# Altium footprint library DB_DFS.PcbLib: 1 footprints
Each footprint in its own frame and in the unit in brackets; x right, y up, seen from the top. Pads: shape width x height; smd on the part's side, far side on the other; paste and mask are expansions set on the pad; w line width, h text height; cw(c..) or ccw(c..) is an arc to the next point about the centre after c.
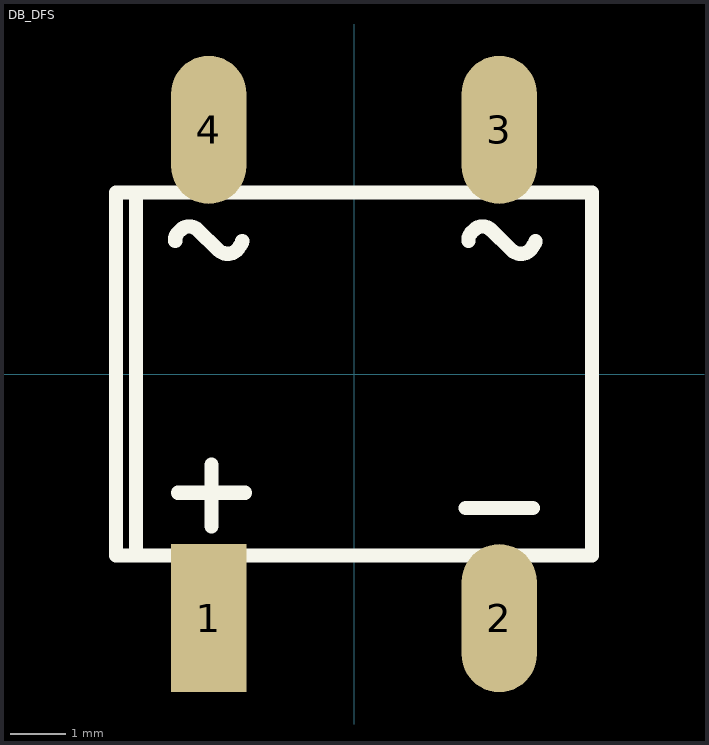
[diagram p0: the footprint, top view; thin cyan lines are the x and y axes]

## DB_DFS [mm] "DIOB_DFL15XXS"
pads (4):
  rect 1.35x2.65 smd: 1(-2.6,-4.37)
  oval 1.35x2.65 smd: 2(2.6,-4.37) 3(2.6,4.37) 4(-2.6,4.37)
Top Overlay:
  lines w0.254: -4.26,-3.25 -4.26,3.25 ; -4.25,-3.25 -3.875,-3.25 ; -4.25,3.25 4.26,3.25 4.26,-3.25 -3.9,-3.25 ; -3.9,-3.2 -3.9,3.2 ; -3.2,2.38 -3.2,2.41 cw(c-3.031,2.41) -3.15,2.53 -3.1,2.58 cw(c-2.95,2.431) -2.8,2.58 -2.43,2.22 ccw(c-2.262,2.39) -2.05,2.28 -2.04,2.3 ccw(c-2.12,2.39) -2,2.38 ; -3.15,-2.125 -1.95,-2.125 ; -2.55,-2.725 -2.55,-1.625 ; 2,-2.4 3.2,-2.4 ; 2.05,2.38 2.05,2.41 cw(c2.219,2.41) 2.1,2.53 2.15,2.58 cw(c2.3,2.431) 2.45,2.58 2.82,2.22 ccw(c2.988,2.39) 3.2,2.28 3.21,2.3 ccw(c3.13,2.39) 3.25,2.38
3D body: height 2.61, standoff 0.02, extent -4.1,-5.2 4.1,5.1